# Altium schematic symbol library AC Line Regulators.SchLib: 2 symbols
Pins are listed as number, name and electrical type; pins without a type are passive.

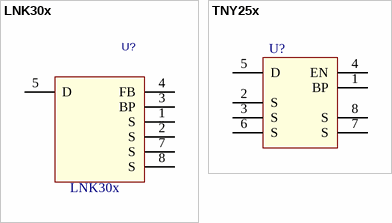
[diagram p0: symbols LNK30x to TNY25x]

## LNK30x
designator U?
Value: LNK30x
footprint LNK30x
pins: 1 S, 2 S, 3 BP, 4 FB (power), 5 D, 7 S, 8 S

## TNY25x
designator U?  (value not drawn)
footprint DIP-8 (DIP; 8 Leads; Row Spacing 7.62 mm; Pitch 2.54 mm)
pins: 1 BP, 2 S, 3 S, 4 EN, 5 D, 6 S, 7 S, 8 S